# Altium integrated library MainLib.IntLib: 12 symbols
Pins are listed as number, name and electrical type; pins without a type are passive.

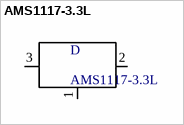
[diagram p0: symbol AMS1117-3.3L]

## AMS1117-3.3L
designator D
footprint SOT223-4N (SOT223, 4-Leads, Body 6,50x7,00mm (avg), Pitch 2,30mm, IPC Medium Density)
pins: 1, 2, 3


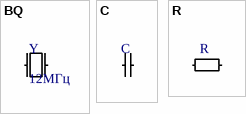
[diagram p1: symbols BQ to R]

## BQ
designator Y, comment 12МГц
footprint HC-49SM (Chip BQ)
pins: 1, 2

## C
designator C  (value not drawn)
footprint 0603 (Chip Resistor, 2-Leads, Body 1,63x0,93mm, IPC Medium Density)
pins: 1, 2

## R
designator R  (value not drawn)
footprint 0603 (Chip Resistor, 2-Leads, Body 1,63x0,93mm, IPC Medium Density)
pins: 1, 2


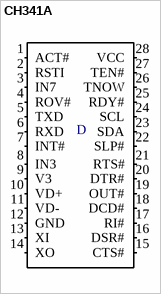
[diagram p2: symbol CH341A]

## CH341A
designator D  (value not drawn)
footprint SOP127-28N (SOP, 28-Leads, Body 17,73x7,50mm, Pitch 1,27mm, IPC Medium Density)
pins: 1 ACT#, 2 RSTI, 3 IN7, 4 ROV#, 5 TXD, 6 RXD, 7 INT#, 8 IN3, 9 V3, 10 VD+, 11 VD-, 12 GND, 13 XI, 14 XO, 15 CTS#, 16 DSR#, 17 RI#, 18 DCD#, 19 OUT#, 20 DTR#, 21 RTS#, 22 SLP#, 23 SDA, 24 SCL, 25 RDY#, 26 TNOW, 27 TEN#, 28 VCC


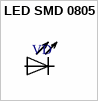
[diagram p3: symbol LED SMD 0805]

## LED SMD 0805
designator VD  (value not drawn)
footprint Led Diode 0805 (Chip Diode, 2-Leads, Body 2,05x1,25mm, IPC Medium Density)
pins: A, K


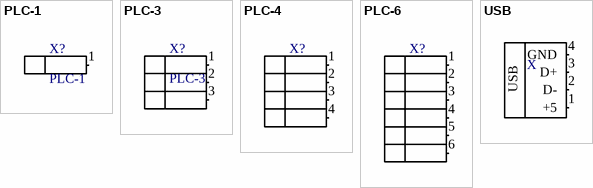
[diagram p4: symbols PLC-1 to USB]

## PLC-1
designator X?
footprint PLC-1
pins: 1

## PLC-3
designator X?
footprint PLC-3
pins: 1, 2, 3

## PLC-4
designator X?  (value not drawn)
footprint PLC-4
pins: 1, 2, 3, 4

## PLC-6
designator X?  (value not drawn)
footprint PLC-6
pins: 1, 2, 3, 4, 5, 6

## USB
designator X  (value not drawn)
footprint USB-ASM (DS1098-B)
pins: 1 +5, 2 D-, 3 D+, 4 GND


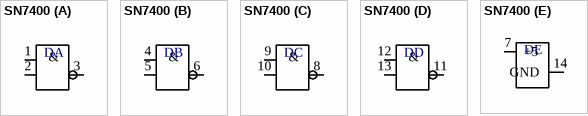
[diagram p5: symbol SN7400]

## SN7400
designator D  (value not drawn)
footprint SOP127-14N (SOP, 14-Leads, Body 8,65x3,90mm, Pitch 1,27mm, IPC Medium Density)
part A pins: 1, 2, 3
part B pins: 4, 5, 6
part C pins: 8, 9, 10
part D pins: 11, 12, 13
part E pins: 7 +5, 14 GND
part A text: &
part B text: &
part C text: &
part D text: &